# EAGLE library part TWIN-RELAY (library Mechanical)
RELAY AUTOMOTIVE SPDT 20A 12V
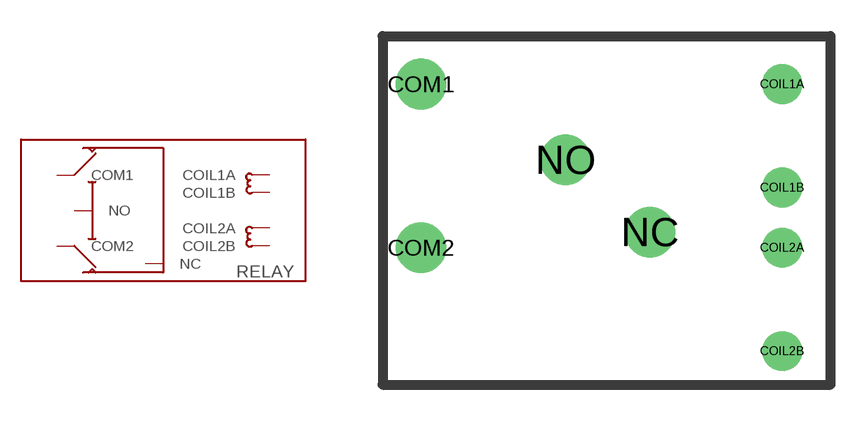
[diagram p84: symbol with the pads of RELAY-ACT212; footprint RELAY-ACT212]

Designator prefix RELAY

## TWIN-RELAY-ACT212  [RELAY-ACT212]
COIL1A  COIL1A
COIL1B  COIL1B
COIL2A  COIL2A
COIL2B  COIL2B
COM1  COM1
COM2  COM2
NC  NC
NO  NO

## Footprint RELAY-ACT212 (pad centres in mm)
Digi-Key Part Number: 255-1851-ND. Manufacturer: Panasonic Electric Works. Manufacturer Part Number: ACT212. Description: RELAY AUTOMOTIVE SPDT 20A 12V. Family Power, Over 2 Amps. Series ACT. Relay Type Automotive. Coil Type Non Latching. Coil Current 66.7mA. Coil Voltage 12VDC. Contact Form SPDT (1 Form C) Dual. Contact Rating (Current) 20A. Switching Voltage 14VDC - Nom. Turn On Voltage (Max) 7.2 VDC. Turn Off Voltage (Min) 1 VDC.
drill 1.1 pad 1.5: COIL1A 15,0; COIL1B 15,-4.3; COIL2A 15,-6.8; COIL2B 15,-11.1
drill 1.4 pad 2: COM1 0,0; COM2 0,-6.8; NC 9.5,-6.15; NO 6,-3.15